# EAGLE library part IPT020N10N3 (library GreenFuel)
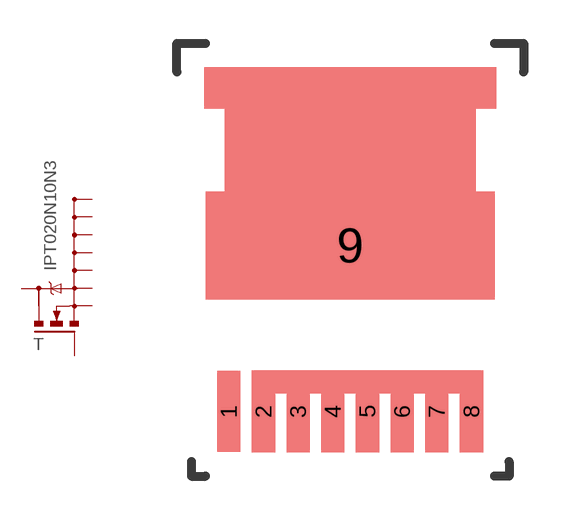
[diagram p6: symbol with the pads of PG-HSOF-9; footprint PG-HSOF-9]

Designator prefix T

## IPT020N10N3V1  [PG-HSOF-9]
1  G  pas
2  S  pas
3  S1  pas
4  S2  pas
5  S3  pas
6  S4  pas
7  S5  pas
8  S6  pas
9  D  pas

## Footprint PG-HSOF-9 (pad centres in mm)
smd 0.8 x 2.8: 1 -4.2,-5.25; 2 -3,-5.25; 3 -1.8,-5.25; 4 -0.6,-5.25; 5 0.6,-5.25; 6 1.8,-5.25; 7 3,-5.25; 8 4.2,-5.25
smd 10 x 3.7: 9 0,0.5